# Altium footprint library Potentiometers THD.PcbLib: 21 footprints (part 1 of 2)
Each footprint in its own frame and in the unit in brackets; x right, y up, seen from the top. Pads: shape width x height; smd on the part's side, far side on the other; paste and mask are expansions set on the pad; w line width, h text height; cw(c..) or ccw(c..) is an arc to the next point about the centre after c.
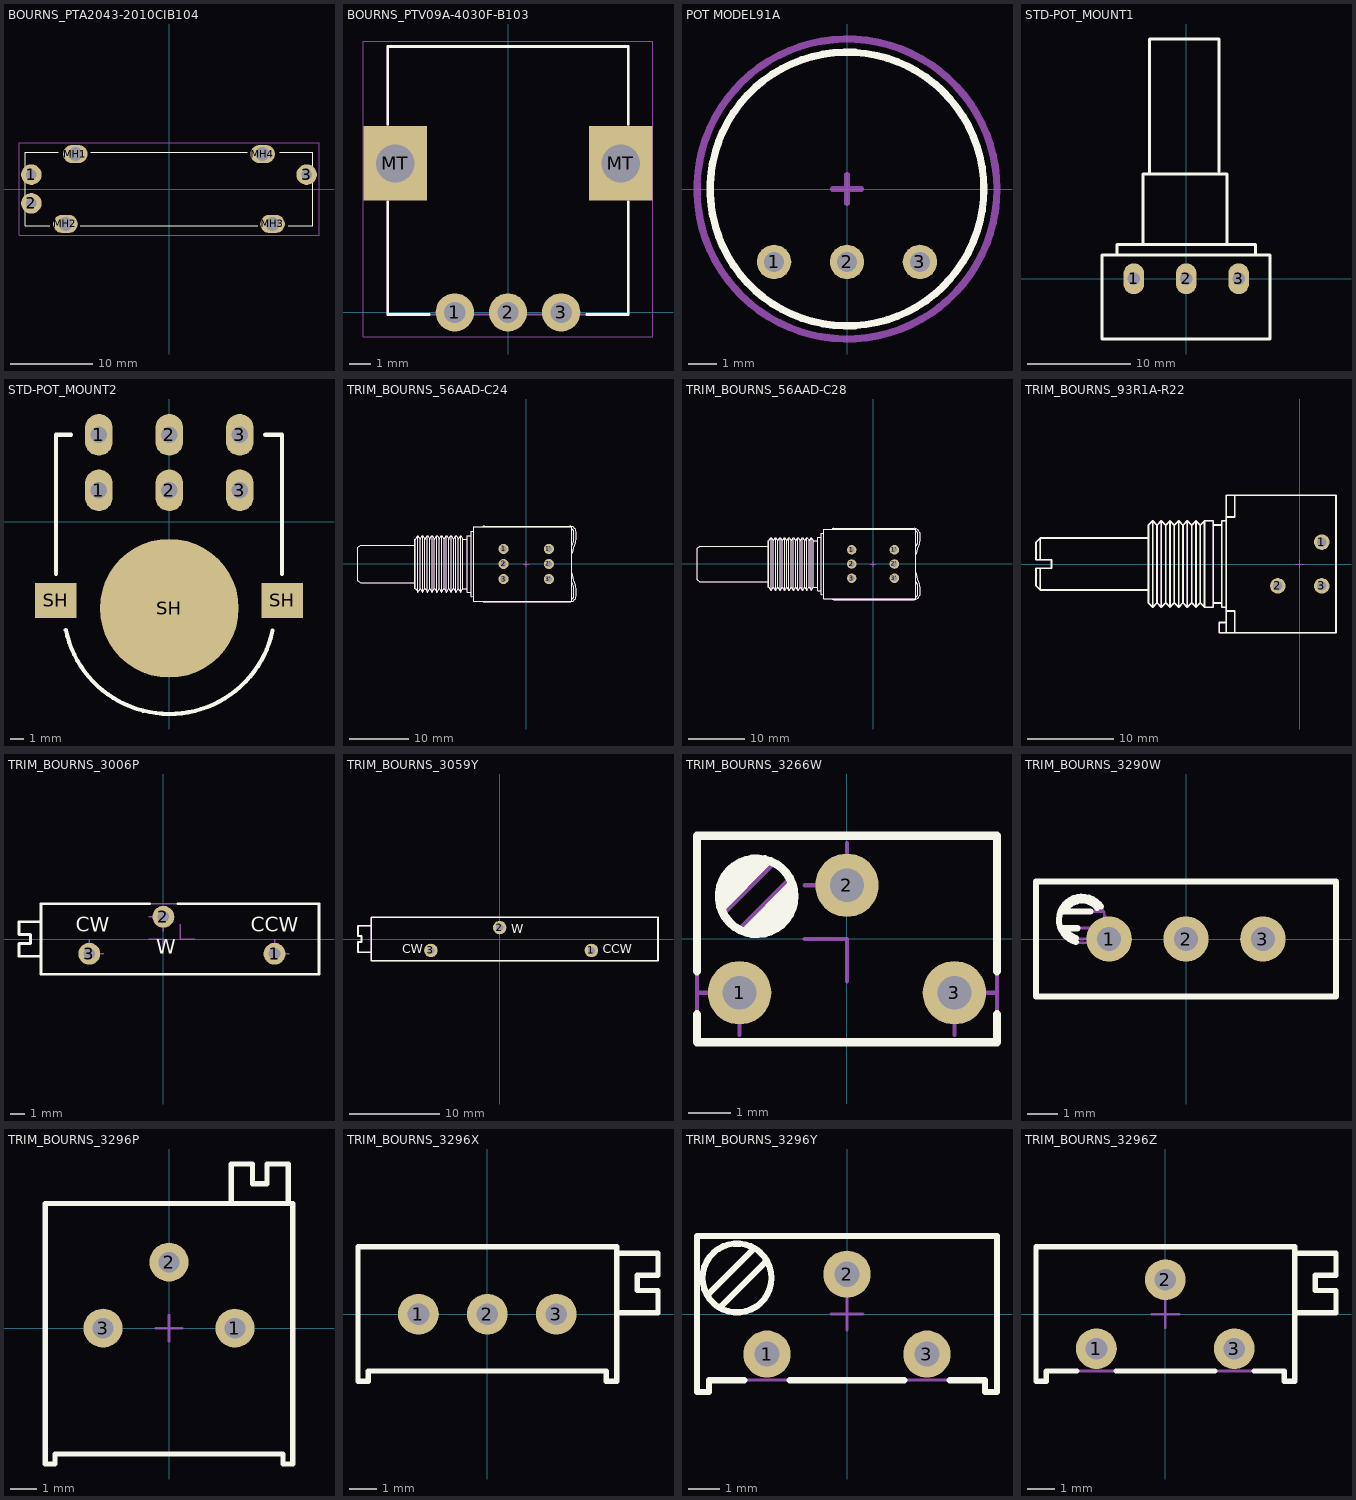
[diagram p0: the footprints below, top view; thin cyan lines are the x and y axes]

## BOURNS_PTA2043-2010CIB104 [mm] "SLIDE POT 100K OHM 0.1W TOP 20MM"
pads (7):
  round 2.5 hole 1.3 mask+0.05: 1(-16.75,1.75) 2(-16.75,-1.75) 3(16.75,1.75)
  oval 3x2.2 hole 1.7 mask+0.05: MH1(-11.4,4.25) MH2(-12.6,-4.25) MH3(12.6,-4.25) MH4(11.4,4.25)
Top Overlay:
  lines w0.127: -14.5,-4.5 -17.5,-4.5 -17.5,4.5 -13.5,4.5 ; -10.8,-4.5 10.8,-4.5 ; -9.5,4.5 9.5,4.5 ; 13.5,4.5 17.5,4.5 17.5,-4.5 14.5,-4.5
Mechanical 15:
  lines w0.05: -18.25,-5.6 -18.25,5.6 18.25,5.6 18.25,-5.6 -18.25,-5.6
3D body: height 6.5, standoff 0, extent -17.5,-4.5 17.5,4.5
3D body: height 11.5, standoff 0.1, extent 7,-1 13.35,1

## BOURNS_PTV09A-4030F-B103 [mm] "Rectangular - 0.433\" x 0.382\" Face (11.00mm x 9.70mm)"
pads (5):
  round 1.8 hole 1: 1(-2.5,0) 2(0,0) 3(2.5,0)
  rect 3x3.5 hole 1.8 square: MT(-5.3,7) MT(5.3,7)
Top Overlay:
  lines w0.127: -5.65,5.2 -5.65,-0.1 -3.7,-0.1 ; -5.65,8.85 -5.65,12.5 5.65,12.5 5.65,8.85 ; 3.7,-0.1 5.65,-0.1 5.65,5.2
Mechanical 1:
  lines w0.1: -5.65,-0.1 -5.65,12.5 5.65,12.5 5.65,-0.1 -5.65,-0.1
Mechanical 15:
  lines w0.05: -6.8,-1.15 -6.8,12.75 6.8,12.75 6.8,-1.15 -6.8,-1.15
3D body "User Library-PTV09A-4.STEP": height 31.54, standoff -3.73, extent -5.659,-0.104 5.642,12.496

## POT MODEL91A [mm]
height 5.08
pads (3):
  round 1.2 hole 0.7: 1(-2.54,-2.54) 2(0,-2.54) 3(2.54,-2.54)
Top Overlay:
  circle w0.254: c0,0 r4.763
Mechanical 15:
  circle w0.254: c0,0 r5.22
  lines w0.2: -0.5,0 0.5,0 ; 0,-0.5 0,0.5
3D body "91A-1 mod.STEP": height 4.89, standoff -1.79, extent -4.681,-4.877 4.681,4.699

## STD-POT_MOUNT1 [mm]
pads (3):
  oval 2x3 hole 1.2: 1(-5.08,0) 2(0,0) 3(5.08,0)
Top Overlay:
  lines w0.3: -6.985,2.286 -6.731,2.286 -6.731,3.302 6.731,3.302 6.731,2.413 ; -4.191,3.429 -4.191,10.16 3.937,10.16 3.937,3.429 ; -3.556,10.287 -3.556,23.241 3.175,23.241 3.175,10.414 ; -8.18,-5.842 -8.18,2.286 8.128,2.286 8.128,-5.842 -8.18,-5.842
3D body "Potentiometer.SLDPRT": height 20.86, standoff -3.99, extent -8.18,-5.8 8.16,23.24

## STD-POT_MOUNT2 [mm]
pads (9):
  oval 2x3 hole 1.2: 1(-5.059,2.25) 1(-5.059,6.25) 2(0.021,2.25) 2(0.021,6.25) 3(5.101,2.25) 3(5.101,6.25)
  rect 3x2.5 smd: SH(-8.149,-5.688) SH(8.149,-5.688)
  round 10 smd: SH(0.021,-6.25)
Top Overlay:
  lines w0.3: -8.149,-3.783 -8.149,6.25 -7.059,6.25 ; -7.439,-7.813 ccw(c0.021,-6.25) 7.47,-7.865 ; 6.941,6.25 8.149,6.25 8.149,-3.783
3D body "Pin Header Male 01x01 P2.54mm.stp": height 8.34, standoff -3.05, extent 3.829,0.98 6.369,3.52
3D body "Pin Header Male 01x01 P2.54mm.stp": height 8.34, standoff -3.05, extent -1.251,0.98 1.289,3.52
3D body "Pin Header Male 01x01 P2.54mm.stp": height 8.34, standoff -3.05, extent -6.331,0.98 -3.791,3.52
3D body "Potentiometer.SLDPRT": height 29.05, standoff 0.01, extent -8.149,-14.62 8.191,10.23

## TRIM_BOURNS_56AAD-C24 [mm] "Panel Control Trimming Potentiometer with Rotary (Clock Wise) SPDT Switch, Serie 56"
height 13.25
pads (6):
  round 1.7 hole 1: 1(-3.81,2.54) 1'(3.81,2.54) 2(-3.81,0) 2'(3.81,0) 3(-3.81,-2.54) 3'(3.81,-2.54)
Top Overlay:
  lines w0.2: -18.773,-4.125 -18.773,4.125 ; -18.653,-4.125 -18.603,-4.125 -18.253,-4.725 -18.203,-4.725 -17.853,-4.125 -17.803,-4.125 -17.453,-4.725 -17.403,-4.725 -17.053,-4.125 -17.003,-4.125 -16.653,-4.725 -16.603,-4.725 -16.253,-4.125 -16.203,-4.125 -15.853,-4.725 -15.803,-4.725 -15.453,-4.125 -15.403,-4.125 -15.053,-4.725 -15.003,-4.725 -14.653,-4.125 -14.603,-4.125 -14.253,-4.725 -14.203,-4.725 -13.853,-4.125 -13.803,-4.125 -13.453,-4.725 -13.403,-4.725 -13.053,-4.125 -13.003,-4.125 -12.653,-4.725 -12.603,-4.725 -12.253,-4.125 -12.203,-4.125 -11.853,-4.725 -11.803,-4.725 -11.453,-4.125 -11.403,-4.125 -11.053,-4.725 -11.003,-4.725 -10.653,-4.125 ; -18.653,4.125 -18.603,4.125 -18.253,4.725 -18.203,4.725 -17.853,4.125 -17.803,4.125 -17.453,4.725 -17.403,4.725 -17.053,4.125 -17.003,4.125 -16.653,4.725 -16.603,4.725 -16.253,4.125 -16.203,4.125 -15.853,4.725 -15.803,4.725 -15.453,4.125 -15.403,4.125 -15.053,4.725 -15.003,4.725 -14.653,4.125 -14.603,4.125 -14.253,4.725 -14.203,4.725 -13.853,4.125 -13.803,4.125 -13.453,4.725 -13.403,4.725 -13.053,4.125 -13.003,4.125 -12.653,4.725 -12.603,4.725 -12.253,4.125 -12.203,4.125 -11.853,4.725 -11.803,4.725 -11.453,4.125 -11.403,4.125 -11.053,4.725 -11.003,4.725 -10.653,4.125 ; -18.628,-4.125 -18.628,4.125 ; -18.228,-4.725 -18.228,4.725 ; -17.828,-4.125 -17.828,4.125 ; -17.428,-4.725 -17.428,4.725 ; -17.028,-4.125 -17.028,4.125 ; -16.628,-4.725 -16.628,4.725 ; -16.228,-4.125 -16.228,4.125 ; -15.828,-4.725 -15.828,4.725 ; -15.428,-4.125 -15.428,4.125 ; -15.028,-4.725 -15.028,4.725 ; -14.628,-4.125 -14.628,4.125 ; -14.228,-4.725 -14.228,4.725 ; -13.828,-4.125 -13.828,4.125 ; -13.428,-4.725 -13.428,4.725 ; -13.028,-4.125 -13.028,4.125 ; -12.628,-4.725 -12.628,4.725 ; -12.228,-4.125 -12.228,4.125 ; -11.828,-4.725 -11.828,4.725 ; -11.428,-4.125 -11.428,4.125 ; -11.028,-4.725 -11.028,4.725 ; -9.891,-4.178 -10.653,-4.178 -10.653,4.178 -9.891,4.178 ; -9.256,-4.763 -9.891,-4.763 -9.891,4.762 -9.256,4.762 ; -8.837,-5.447 -9.243,-5.512 -9.243,5.512 -8.837,5.512 ; -7.33,-6.248 ccw(c-7.052,-5.918) -7.052,-6.35 7.354,-6.35 ccw(c7.354,-5.294) 8.41,-5.294 8.41,-4.315 ccw(c6.53,-4.315) 8.246,-3.547 cw(c14.706,-0.656) 7.733,-1.87 7.673,-1.524 ; -7.33,6.248 cw(c-7.052,5.918) -7.052,6.35 7.354,6.35 cw(c7.354,5.294) 8.41,5.294 8.41,4.315 cw(c6.53,4.315) 8.246,3.547 ccw(c14.706,0.656) 7.733,1.87 7.673,1.524 ; 7.673,-5.889 ccw(c7.354,-5.294) 8.029,-5.294 8.029,-4.315 ccw(c6.53,-4.315) 7.898,-3.702 cw(c14.706,-0.656) 7.673,-3.14 ; 7.673,3.14 cw(c14.706,0.656) 7.898,3.702 ccw(c6.53,4.315) 8.029,4.315 8.029,5.294 ccw(c7.354,5.294) 7.673,5.889 ; -28.293,-2.821 -27.793,-3.175 -18.773,-3.175 -18.773,3.175 -27.793,3.175 -28.293,2.821 -28.293,-2.821 ; -8.837,-6.248 7.673,-6.248 7.673,6.248 -8.837,6.248 -8.837,-6.248
Mechanical 8:
  lines w0.1: -4.31,-2.54 -3.81,-2.54 ; -4.31,-0.001 -3.81,-0.001 ; -4.31,2.54 -3.81,2.54 ; -3.81,-3.04 -3.81,-2.54 ; -3.81,-2.04 -3.81,-2.54 ; -3.81,-0.501 -3.81,-0.001 ; -3.81,0.499 -3.81,-0.001 ; -3.81,2.04 -3.81,2.54 ; -3.81,3.04 -3.81,2.54 ; -3.31,-2.54 -3.81,-2.54 ; -3.31,-0.001 -3.81,-0.001 ; -3.31,2.54 -3.81,2.54 ; -0.5,0 0,0 ; 0,-0.5 0,0 ; 0,0.5 0,0 ; 0.5,0 0,0 ; 3.31,-2.54 3.81,-2.54 ; 3.31,-0.001 3.81,-0.001 ; 3.31,2.54 3.81,2.54 ; 3.81,-3.04 3.81,-2.54 ; 3.81,-2.04 3.81,-2.54 ; 3.81,-0.501 3.81,-0.001 ; 3.81,0.499 3.81,-0.001 ; 3.81,2.04 3.81,2.54 ; 3.81,3.04 3.81,2.54 ; 4.31,-2.54 3.81,-2.54 ; 4.31,-0.001 3.81,-0.001 ; 4.31,2.54 3.81,2.54
Mechanical 14:
  lines w0.1: -18.773,-4.125 -18.773,4.125 ; -18.653,-4.125 -18.603,-4.125 -18.253,-4.725 -18.203,-4.725 -17.853,-4.125 -17.803,-4.125 -17.453,-4.725 -17.403,-4.725 -17.053,-4.125 -17.003,-4.125 -16.653,-4.725 -16.603,-4.725 -16.253,-4.125 -16.203,-4.125 -15.853,-4.725 -15.803,-4.725 -15.453,-4.125 -15.403,-4.125 -15.053,-4.725 -15.003,-4.725 -14.653,-4.125 -14.603,-4.125 -14.253,-4.725 -14.203,-4.725 -13.853,-4.125 -13.803,-4.125 -13.453,-4.725 -13.403,-4.725 -13.053,-4.125 -13.003,-4.125 -12.653,-4.725 -12.603,-4.725 -12.253,-4.125 -12.203,-4.125 -11.853,-4.725 -11.803,-4.725 -11.453,-4.125 -11.403,-4.125 -11.053,-4.725 -11.003,-4.725 -10.653,-4.125 ; -18.653,4.125 -18.603,4.125 -18.253,4.725 -18.203,4.725 -17.853,4.125 -17.803,4.125 -17.453,4.725 -17.403,4.725 -17.053,4.125 -17.003,4.125 -16.653,4.725 -16.603,4.725 -16.253,4.125 -16.203,4.125 -15.853,4.725 -15.803,4.725 -15.453,4.125 -15.403,4.125 -15.053,4.725 -15.003,4.725 -14.653,4.125 -14.603,4.125 -14.253,4.725 -14.203,4.725 -13.853,4.125 -13.803,4.125 -13.453,4.725 -13.403,4.725 -13.053,4.125 -13.003,4.125 -12.653,4.725 -12.603,4.725 -12.253,4.125 -12.203,4.125 -11.853,4.725 -11.803,4.725 -11.453,4.125 -11.403,4.125 -11.053,4.725 -11.003,4.725 -10.653,4.125 ; -18.628,-4.125 -18.628,4.125 ; -18.228,-4.725 -18.228,4.725 ; -17.828,-4.125 -17.828,4.125 ; -17.428,-4.725 -17.428,4.725 ; -17.028,-4.125 -17.028,4.125 ; -16.628,-4.725 -16.628,4.725 ; -16.228,-4.125 -16.228,4.125 ; -15.828,-4.725 -15.828,4.725 ; -15.428,-4.125 -15.428,4.125 ; -15.028,-4.725 -15.028,4.725 ; -14.628,-4.125 -14.628,4.125 ; -14.228,-4.725 -14.228,4.725 ; -13.828,-4.125 -13.828,4.125 ; -13.428,-4.725 -13.428,4.725 ; -13.028,-4.125 -13.028,4.125 ; -12.628,-4.725 -12.628,4.725 ; -12.228,-4.125 -12.228,4.125 ; -11.828,-4.725 -11.828,4.725 ; -11.428,-4.125 -11.428,4.125 ; -11.028,-4.725 -11.028,4.725 ; -9.891,-4.178 -10.653,-4.178 -10.653,4.178 -9.891,4.178 ; -9.256,-4.763 -9.891,-4.763 -9.891,4.762 -9.256,4.762 ; -8.837,-5.447 -9.243,-5.512 -9.243,5.512 -8.837,5.512 ; -7.33,-6.248 ccw(c-7.052,-5.918) -7.052,-6.35 7.354,-6.35 ccw(c7.354,-5.294) 8.41,-5.294 8.41,-4.315 ccw(c6.53,-4.315) 8.246,-3.547 cw(c14.706,-0.656) 7.733,-1.87 7.673,-1.524 ; -7.33,6.248 cw(c-7.052,5.918) -7.052,6.35 7.354,6.35 cw(c7.354,5.294) 8.41,5.294 8.41,4.315 cw(c6.53,4.315) 8.246,3.547 ccw(c14.706,0.656) 7.733,1.87 7.673,1.524 ; 7.673,-5.889 ccw(c7.354,-5.294) 8.029,-5.294 8.029,-4.315 ccw(c6.53,-4.315) 7.898,-3.702 cw(c14.706,-0.656) 7.673,-3.14 ; 7.673,3.14 cw(c14.706,0.656) 7.898,3.702 ccw(c6.53,4.315) 8.029,4.315 8.029,5.294 ccw(c7.354,5.294) 7.673,5.889 ; -28.293,-2.821 -27.793,-3.175 -18.773,-3.175 -18.773,3.175 -27.793,3.175 -28.293,2.821 -28.293,-2.821 ; -8.837,-6.248 7.673,-6.248 7.673,6.248 -8.837,6.248 -8.837,-6.248
3D body "TRIM_BOURNS_56AAD-C24_Part2.stp": height 14.09, standoff -0.12, extent -12.582,-6.772 -9.241,6.772
3D body "TRIM_BOURNS_56AAD-C24_Part1.stp": height 13.23, standoff -6.9, extent -28.293,-6.35 8.41,6.35

## TRIM_BOURNS_56AAD-C28 [mm] "Panel Control Trimming Potentiometer with Rotary (Clock Wise) SPDT Switch, Serie 56"
height 13.25
pads (6):
  round 1.7 hole 1: 1(-3.81,2.54) 1'(3.81,2.54) 2(-3.81,0) 2'(3.81,0) 3(-3.81,-2.54) 3'(3.81,-2.54)
Top Overlay:
  lines w0.2: -18.773,-4.125 -18.773,4.125 ; -18.653,-4.125 -18.603,-4.125 -18.253,-4.725 -18.203,-4.725 -17.853,-4.125 -17.803,-4.125 -17.453,-4.725 -17.403,-4.725 -17.053,-4.125 -17.003,-4.125 -16.653,-4.725 -16.603,-4.725 -16.253,-4.125 -16.203,-4.125 -15.853,-4.725 -15.803,-4.725 -15.453,-4.125 -15.403,-4.125 -15.053,-4.725 -15.003,-4.725 -14.653,-4.125 -14.603,-4.125 -14.253,-4.725 -14.203,-4.725 -13.853,-4.125 -13.803,-4.125 -13.453,-4.725 -13.403,-4.725 -13.053,-4.125 -13.003,-4.125 -12.653,-4.725 -12.603,-4.725 -12.253,-4.125 -12.203,-4.125 -11.853,-4.725 -11.803,-4.725 -11.453,-4.125 -11.403,-4.125 -11.053,-4.725 -11.003,-4.725 -10.653,-4.125 ; -18.653,4.125 -18.603,4.125 -18.253,4.725 -18.203,4.725 -17.853,4.125 -17.803,4.125 -17.453,4.725 -17.403,4.725 -17.053,4.125 -17.003,4.125 -16.653,4.725 -16.603,4.725 -16.253,4.125 -16.203,4.125 -15.853,4.725 -15.803,4.725 -15.453,4.125 -15.403,4.125 -15.053,4.725 -15.003,4.725 -14.653,4.125 -14.603,4.125 -14.253,4.725 -14.203,4.725 -13.853,4.125 -13.803,4.125 -13.453,4.725 -13.403,4.725 -13.053,4.125 -13.003,4.125 -12.653,4.725 -12.603,4.725 -12.253,4.125 -12.203,4.125 -11.853,4.725 -11.803,4.725 -11.453,4.125 -11.403,4.125 -11.053,4.725 -11.003,4.725 -10.653,4.125 ; -18.628,-4.125 -18.628,4.125 ; -18.228,-4.725 -18.228,4.725 ; -17.828,-4.125 -17.828,4.125 ; -17.428,-4.725 -17.428,4.725 ; -17.028,-4.125 -17.028,4.125 ; -16.628,-4.725 -16.628,4.725 ; -16.228,-4.125 -16.228,4.125 ; -15.828,-4.725 -15.828,4.725 ; -15.428,-4.125 -15.428,4.125 ; -15.028,-4.725 -15.028,4.725 ; -14.628,-4.125 -14.628,4.125 ; -14.228,-4.725 -14.228,4.725 ; -13.828,-4.125 -13.828,4.125 ; -13.428,-4.725 -13.428,4.725 ; -13.028,-4.125 -13.028,4.125 ; -12.628,-4.725 -12.628,4.725 ; -12.228,-4.125 -12.228,4.125 ; -11.828,-4.725 -11.828,4.725 ; -11.428,-4.125 -11.428,4.125 ; -11.028,-4.725 -11.028,4.725 ; -9.891,-4.178 -10.653,-4.178 -10.653,4.178 -9.891,4.178 ; -9.256,-4.763 -9.891,-4.763 -9.891,4.762 -9.256,4.762 ; -8.837,-5.447 -9.243,-5.512 -9.243,5.512 -8.837,5.512 ; -7.33,-6.248 ccw(c-7.052,-5.918) -7.052,-6.35 7.354,-6.35 ccw(c7.354,-5.294) 8.41,-5.294 8.41,-4.315 ccw(c6.53,-4.315) 8.246,-3.547 cw(c14.706,-0.656) 7.733,-1.87 7.673,-1.524 ; -7.33,6.248 cw(c-7.052,5.918) -7.052,6.35 7.354,6.35 cw(c7.354,5.294) 8.41,5.294 8.41,4.315 cw(c6.53,4.315) 8.246,3.547 ccw(c14.706,0.656) 7.733,1.87 7.673,1.524 ; 7.673,-5.889 ccw(c7.354,-5.294) 8.029,-5.294 8.029,-4.315 ccw(c6.53,-4.315) 7.898,-3.702 cw(c14.706,-0.656) 7.673,-3.14 ; 7.673,3.14 cw(c14.706,0.656) 7.898,3.702 ccw(c6.53,4.315) 8.029,4.315 8.029,5.294 ccw(c7.354,5.294) 7.673,5.889 ; -31.473,-2.821 -31.473,2.821 -30.973,3.175 -18.773,3.175 -18.773,-3.175 -30.973,-3.175 -31.473,-2.821 ; -8.837,-6.248 -8.837,6.248 7.673,6.248 7.673,-6.248 -8.837,-6.248
Mechanical 8:
  lines w0.1: -4.31,-2.54 -3.81,-2.54 ; -4.31,-0.001 -3.81,-0.001 ; -4.31,2.54 -3.81,2.54 ; -3.81,-3.04 -3.81,-2.54 ; -3.81,-2.04 -3.81,-2.54 ; -3.81,-0.501 -3.81,-0.001 ; -3.81,0.499 -3.81,-0.001 ; -3.81,2.04 -3.81,2.54 ; -3.81,3.04 -3.81,2.54 ; -3.31,-2.54 -3.81,-2.54 ; -3.31,-0.001 -3.81,-0.001 ; -3.31,2.54 -3.81,2.54 ; -0.5,0 0,0 ; 0,-0.5 0,0 ; 0,0.5 0,0 ; 0.5,0 0,0 ; 3.31,-2.54 3.81,-2.54 ; 3.31,-0.001 3.81,-0.001 ; 3.31,2.54 3.81,2.54 ; 3.81,-3.04 3.81,-2.54 ; 3.81,-2.04 3.81,-2.54 ; 3.81,-0.501 3.81,-0.001 ; 3.81,0.499 3.81,-0.001 ; 3.81,2.04 3.81,2.54 ; 3.81,3.04 3.81,2.54 ; 4.31,-2.54 3.81,-2.54 ; 4.31,-0.001 3.81,-0.001 ; 4.31,2.54 3.81,2.54
Mechanical 14:
  lines w0.1: -18.773,-4.125 -18.773,4.125 ; -18.653,-4.125 -18.603,-4.125 -18.253,-4.725 -18.203,-4.725 -17.853,-4.125 -17.803,-4.125 -17.453,-4.725 -17.403,-4.725 -17.053,-4.125 -17.003,-4.125 -16.653,-4.725 -16.603,-4.725 -16.253,-4.125 -16.203,-4.125 -15.853,-4.725 -15.803,-4.725 -15.453,-4.125 -15.403,-4.125 -15.053,-4.725 -15.003,-4.725 -14.653,-4.125 -14.603,-4.125 -14.253,-4.725 -14.203,-4.725 -13.853,-4.125 -13.803,-4.125 -13.453,-4.725 -13.403,-4.725 -13.053,-4.125 -13.003,-4.125 -12.653,-4.725 -12.603,-4.725 -12.253,-4.125 -12.203,-4.125 -11.853,-4.725 -11.803,-4.725 -11.453,-4.125 -11.403,-4.125 -11.053,-4.725 -11.003,-4.725 -10.653,-4.125 ; -18.653,4.125 -18.603,4.125 -18.253,4.725 -18.203,4.725 -17.853,4.125 -17.803,4.125 -17.453,4.725 -17.403,4.725 -17.053,4.125 -17.003,4.125 -16.653,4.725 -16.603,4.725 -16.253,4.125 -16.203,4.125 -15.853,4.725 -15.803,4.725 -15.453,4.125 -15.403,4.125 -15.053,4.725 -15.003,4.725 -14.653,4.125 -14.603,4.125 -14.253,4.725 -14.203,4.725 -13.853,4.125 -13.803,4.125 -13.453,4.725 -13.403,4.725 -13.053,4.125 -13.003,4.125 -12.653,4.725 -12.603,4.725 -12.253,4.125 -12.203,4.125 -11.853,4.725 -11.803,4.725 -11.453,4.125 -11.403,4.125 -11.053,4.725 -11.003,4.725 -10.653,4.125 ; -18.628,-4.125 -18.628,4.125 ; -18.228,-4.725 -18.228,4.725 ; -17.828,-4.125 -17.828,4.125 ; -17.428,-4.725 -17.428,4.725 ; -17.028,-4.125 -17.028,4.125 ; -16.628,-4.725 -16.628,4.725 ; -16.228,-4.125 -16.228,4.125 ; -15.828,-4.725 -15.828,4.725 ; -15.428,-4.125 -15.428,4.125 ; -15.028,-4.725 -15.028,4.725 ; -14.628,-4.125 -14.628,4.125 ; -14.228,-4.725 -14.228,4.725 ; -13.828,-4.125 -13.828,4.125 ; -13.428,-4.725 -13.428,4.725 ; -13.028,-4.125 -13.028,4.125 ; -12.628,-4.725 -12.628,4.725 ; -12.228,-4.125 -12.228,4.125 ; -11.828,-4.725 -11.828,4.725 ; -11.428,-4.125 -11.428,4.125 ; -11.028,-4.725 -11.028,4.725 ; -9.891,-4.178 -10.653,-4.178 -10.653,4.178 -9.891,4.178 ; -9.256,-4.763 -9.891,-4.763 -9.891,4.762 -9.256,4.762 ; -8.837,-5.447 -9.243,-5.512 -9.243,5.512 -8.837,5.512 ; -7.33,-6.248 ccw(c-7.052,-5.918) -7.052,-6.35 7.354,-6.35 ccw(c7.354,-5.294) 8.41,-5.294 8.41,-4.315 ccw(c6.53,-4.315) 8.246,-3.547 cw(c14.706,-0.656) 7.733,-1.87 7.673,-1.524 ; -7.33,6.248 cw(c-7.052,5.918) -7.052,6.35 7.354,6.35 cw(c7.354,5.294) 8.41,5.294 8.41,4.315 cw(c6.53,4.315) 8.246,3.547 ccw(c14.706,0.656) 7.733,1.87 7.673,1.524 ; 7.673,-5.889 ccw(c7.354,-5.294) 8.029,-5.294 8.029,-4.315 ccw(c6.53,-4.315) 7.898,-3.702 cw(c14.706,-0.656) 7.673,-3.14 ; 7.673,3.14 cw(c14.706,0.656) 7.898,3.702 ccw(c6.53,4.315) 8.029,4.315 8.029,5.294 ccw(c7.354,5.294) 7.673,5.889 ; -31.473,-2.821 -31.473,2.821 -30.973,3.175 -18.773,3.175 -18.773,-3.175 -30.973,-3.175 -31.473,-2.821 ; -8.837,-6.248 -8.837,6.248 7.673,6.248 7.673,-6.248 -8.837,-6.248
3D body "TRIM_BOURNS_56AAD-C28_Part1.stp": height 13.23, standoff -6.9, extent -31.473,-6.35 8.41,6.35
3D body "TRIM_BOURNS_56AAD-C28_Part2.stp": height 14.09, standoff -0.12, extent -12.582,-6.772 -9.241,6.772

## TRIM_BOURNS_93R1A-R22 [mm] "1 Turn Panel Control Trimming Potentiometer 93 Series"
height 17.45
pads (3):
  round 1.8 hole 1.1: 1(2.54,2.54) 2(-2.54,-2.54) 3(2.54,-2.54)
Top Overlay:
  lines w0.2: -30.01,-0.5 -30.01,-3 ; -30.01,0.5 -30.01,3 ; -17.51,-3 -30.01,-3 ; -17.51,3 -30.01,3 ; -10.01,-4.5 -9.01,-4.5 ; -10.01,4.5 -9.01,4.5 ; -8.51,-7.94 -8.51,7.94 4.19,7.94 4.19,-7.94 -9.3,-7.94 -9.3,-6.76 -8.51,-6.76 ; -8.51,-5.44 -7.51,-5.44 -7.51,-7.94 ; -8.51,-5 -9.01,-5 -9.01,5 -8.51,5 ; -8.51,5.44 -7.51,5.44 -7.51,7.94 ; -30.01,-3 -30.51,-2.5 -30.51,-0.5 -28.71,-0.5 -28.71,0.5 -30.51,0.5 -30.51,2.5 -30.01,3 ; -17.01,-5 -17.01,5 ; -17.01,-5 -16.51,-4.5 ; -17.01,-5 -17.51,-4.5 -17.51,4.5 -17.01,5 ; -17.01,5 -16.51,4.5 ; -16.51,-4.5 -16.51,4.5 ; -16.51,-4.5 -16.01,-5 ; -16.51,4.5 -16.01,5 ; -16.01,-5 -16.01,5 ; -16.01,-5 -15.51,-4.5 ; -16.01,5 -15.51,4.5 ; -15.51,-4.5 -15.51,4.5 ; -15.51,-4.5 -15.01,-5 ; -15.51,4.5 -15.01,5 ; -15.01,-5 -15.01,5 ; -15.01,-5 -14.51,-4.5 ; -15.01,5 -14.51,4.5 ; -14.51,-4.5 -14.51,4.5 ; -14.51,-4.5 -14.01,-5 ; -14.51,4.5 -14.01,5 ; -14.01,-5 -14.01,5 ; -14.01,-5 -13.51,-4.5 ; -14.01,5 -13.51,4.5 ; -13.51,-4.5 -13.51,4.5 ; -13.51,-4.5 -13.01,-5 ; -13.51,4.5 -13.01,5 ; -13.01,-5 -13.01,5 ; -13.01,-5 -12.51,-4.5 ; -13.01,5 -12.51,4.5 ; -12.51,-4.5 -12.51,4.5 ; -12.51,-4.5 -12.01,-5 ; -12.51,4.5 -12.01,5 ; -12.01,-5 -12.01,5 ; -12.01,-5 -11.51,-4.5 ; -12.01,5 -11.51,4.5 ; -11.51,-4.5 -11.51,4.5 ; -11.51,-4.5 -11.01,-5 ; -11.51,4.5 -11.01,5 ; -11.01,-5 -11.01,5 ; -11.01,-5 -10.01,-5 -10.01,5 -11.01,5
Mechanical 8:
  lines w0.05: -3.04,-2.54 -2.54,-2.54 ; -2.54,-3.04 -2.54,-2.54 ; -2.54,-2.04 -2.54,-2.54 ; -2.04,-2.54 -2.54,-2.54 ; -0.5,0 0,0 ; 0,-0.5 0,0 ; 0,0.5 0,0 ; 0.5,0 0,0 ; 2.04,-2.54 2.54,-2.54 ; 2.04,2.54 2.54,2.54 ; 2.54,-3.04 2.54,-2.54 ; 2.54,-2.04 2.54,-2.54 ; 2.54,2.04 2.54,2.54 ; 2.54,3.04 2.54,2.54 ; 3.04,-2.54 2.54,-2.54 ; 3.04,2.54 2.54,2.54
Mechanical 14:
  lines w0.1: -30.01,-0.5 -30.01,-3 ; -30.01,0.5 -30.01,3 ; -17.51,-3 -30.01,-3 ; -17.51,3 -30.01,3 ; -10.01,-4.5 -9.01,-4.5 ; -10.01,4.5 -9.01,4.5 ; -8.51,-7.94 -8.51,7.94 4.19,7.94 4.19,-7.94 -9.3,-7.94 -9.3,-6.76 -8.51,-6.76 ; -8.51,-5.44 -7.51,-5.44 -7.51,-7.94 ; -8.51,-5 -9.01,-5 -9.01,5 -8.51,5 ; -8.51,5.44 -7.51,5.44 -7.51,7.94 ; -30.01,-3 -30.51,-2.5 -30.51,-0.5 -28.71,-0.5 -28.71,0.5 -30.51,0.5 -30.51,2.5 -30.01,3 ; -17.01,-5 -17.01,5 ; -17.01,-5 -16.51,-4.5 ; -17.01,-5 -17.51,-4.5 -17.51,4.5 -17.01,5 ; -17.01,5 -16.51,4.5 ; -16.51,-4.5 -16.51,4.5 ; -16.51,-4.5 -16.01,-5 ; -16.51,4.5 -16.01,5 ; -16.01,-5 -16.01,5 ; -16.01,-5 -15.51,-4.5 ; -16.01,5 -15.51,4.5 ; -15.51,-4.5 -15.51,4.5 ; -15.51,-4.5 -15.01,-5 ; -15.51,4.5 -15.01,5 ; -15.01,-5 -15.01,5 ; -15.01,-5 -14.51,-4.5 ; -15.01,5 -14.51,4.5 ; -14.51,-4.5 -14.51,4.5 ; -14.51,-4.5 -14.01,-5 ; -14.51,4.5 -14.01,5 ; -14.01,-5 -14.01,5 ; -14.01,-5 -13.51,-4.5 ; -14.01,5 -13.51,4.5 ; -13.51,-4.5 -13.51,4.5 ; -13.51,-4.5 -13.01,-5 ; -13.51,4.5 -13.01,5 ; -13.01,-5 -13.01,5 ; -13.01,-5 -12.51,-4.5 ; -13.01,5 -12.51,4.5 ; -12.51,-4.5 -12.51,4.5 ; -12.51,-4.5 -12.01,-5 ; -12.51,4.5 -12.01,5 ; -12.01,-5 -12.01,5 ; -12.01,-5 -11.51,-4.5 ; -12.01,5 -11.51,4.5 ; -11.51,-4.5 -11.51,4.5 ; -11.51,-4.5 -11.01,-5 ; -11.51,4.5 -11.01,5 ; -11.01,-5 -11.01,5 ; -11.01,-5 -10.01,-5 -10.01,5 -11.01,5
3D body "TRIM_BOURNS_93R1A-R22_1.stp": height 16.3, standoff 2.76, extent -14.137,-7.103 -10.796,7.103
3D body "TRIM_BOURNS_93R1A-R22.stp": height 17.45, standoff -12.7, extent -30.51,-7.94 4.19,7.94

## TRIM_BOURNS_3006P [mm] "Trimming Potentiometer BOURNS 3006P Series"
height 6.35
pads (3):
  round 1.5 hole 0.8: 1(7.62,-1.015) 2(0,1.525) 3(-5.08,-1.015)
Top Overlay:
  lines w0.2: -8.38,-1.18 -9.9,-1.18 -9.9,-0.32 -9.11,-0.32 -9.11,0.32 -9.9,0.32 -9.9,1.18 -8.38,1.18 ; -0.95,2.415 -8.38,2.415 -8.38,-2.415 10.67,-2.415 10.67,2.415 1,2.415
  text "CW" at -6,0.5 h1
  text "W" at -0.5,-1 h1
  text "CCW" at 6,0.5 h1
Mechanical 8:
  circle w0.1: c7.62,-1.015 r0.27
  circle w0.1: c-5.08,-1.015 r0.27
  circle w0.1: c0,1.525 r0.27
  lines w0.1: -5.08,-0.015 -5.08,-1.015 -4.08,-1.015 ; -1,0 0,0 0,-1 ; -1,1.525 0,1.525 0,0.525 ; 1.145,1 1.145,0 2.145,0 ; 7.62,-0.015 7.62,-1.015 8.62,-1.015
Mechanical 14:
  lines w0.1: -8.38,-1.18 -9.9,-1.18 -9.9,-0.32 -9.11,-0.32 -9.11,0.32 -9.9,0.32 -9.9,1.18 -8.38,1.18 ; -8.38,-2.415 10.67,-2.415 10.67,2.415 -8.38,2.415 -8.38,-2.415
  text "CW" at -6,0.5 h1
  text "W" at -0.5,-1 h1
  text "CCW" at 6,0.5 h1
3D body "TRIM_BOURNS_3006P.stp": height 6.35, standoff -3.1, extent -9.9,-2.415 10.67,2.415

## TRIM_BOURNS_3059Y [mm] "Trimming Potentiometer BOURNS 3059 Series"
height 8.38
pads (3):
  round 1.5 hole 0.8: 1(10.16,-1.27) 2(0,1.27) 3(-7.62,-1.27)
Top Overlay:
  lines w0.2: -14.22,-1.46 -15.69,-1.46 ; -14.22,1.46 -15.69,1.46 -15.69,0.32 -15.295,0.32 -15.295,-0.32 -15.69,-0.32 ; -15.69,-1.46 -15.69,-0.32 ; -15.69,-1.46 -15.69,-0.32 ; -14.22,-2.415 17.53,-2.415 17.53,2.415 -14.22,2.415 -14.22,-2.415
  text "CW" at -10.795,-1.587 h1
  text "W" at 1.27,0.635 h1
  text "CCW" at 11.43,-1.587 h1
Mechanical 14:
  lines w0.1: -14.22,-1.46 -15.69,-1.46 -15.69,-0.32 -15.295,-0.32 -15.295,0.32 -15.69,0.32 -15.69,1.46 -14.22,1.46 ; -14.22,-2.415 17.53,-2.415 17.53,2.415 -14.22,2.415 -14.22,-2.415
3D body "TRIM_BOURNS_3059Y.stp": height 8.38, standoff -3.8, extent -16.25,-2.415 17.53,2.415

## TRIM_BOURNS_3266W [mm] "Trimming Potentiometer BOURNS 3266W Series"
height 7.75
pads (3):
  round 1.5 hole 0.8: 1(-2.54,-1.27) 2(0,1.27) 3(2.54,-1.27)
Top Overlay:
  circle w0.2: c-2.135,1.01 r0.89
  lines w0.2: -3.545,-1.775 -3.545,-2.44 3.545,-2.44 3.545,-1.775 ; -3.545,-0.765 -3.545,2.44 3.545,2.44 3.545,-0.765 ; -3.012,1.088 -2.228,1.878 ; -3,0.9 -2.028,1.878 ; -2.962,0.737 -1.865,1.84 ; -2.953,1.353 -2.503,1.803 ; -2.405,0.18 -1.308,1.283 ; -2.242,0.142 -1.27,1.12 ; -2.042,0.142 -1.258,0.933 ; -1.767,0.217 -1.317,0.667
Mechanical 8:
  circle w0.1: c2.54,-1.27 r0.245
  circle w0.1: c-2.54,-1.27 r0.245
  circle w0.1: c0,1.27 r0.245
  lines w0.1: -3.54,-1.27 -2.54,-1.27 -2.54,-2.27 ; -1,0 0,0 0,-1 ; -1,1.27 0,1.27 0,2.27 ; 2.54,-2.27 2.54,-1.27 3.54,-1.27
Mechanical 14:
  circle w0.1: c-2.135,1.01 r0.89
  lines w0.1: -2.918,0.587 -1.712,1.793 ; -2.558,0.227 -1.352,1.433 ; -3.545,-2.44 3.545,-2.44 3.545,2.44 -3.545,2.44 -3.545,-2.44
3D body "TRIM_BOURNS_3266W.stp": height 8.77, standoff -3.1, extent -3.545,-2.44 3.545,2.44

## TRIM_BOURNS_3290W [mm] "Trimming Potentiometer BOURNS 3290W Series"
height 9.91
pads (3):
  round 1.5 hole 0.8: 1(-2.54,0) 2(0,0) 3(2.54,0)
Top Overlay:
  lines w0.2: -4.144,0.356 -3.581,0.356 ; -4.144,0.914 -3.151,0.914 ; -4.005,0.356 ccw(c-3.435,0.635) -3.639,0.034 ; -4.005,0.914 cw(c-3.435,0.635) -2.935,1.027 ; -3.635,-0.1 cw(c-3.435,0.635) -2.807,1.067 ; -4.955,-1.905 4.955,-1.905 4.955,1.905 -4.955,1.905 -4.955,-1.905
Mechanical 8:
  lines w0.05: -3.04,0 -2.54,0 ; -2.54,-0.5 -2.54,0 ; -2.54,0.5 -2.54,0 ; -2.04,0 -2.54,0 ; -0.5,0 0,0 ; 0,-0.5 0,0 ; 0,0.5 0,0 ; 0.5,0 0,0 ; 2.04,0 2.54,0 ; 2.54,-0.5 2.54,0 ; 2.54,0.5 2.54,0 ; 3.04,0 2.54,0
Mechanical 14:
  circle w0.1: c-3.435,0.635 r0.762
  lines w0.1: -4.144,0.356 -2.726,0.356 ; -4.144,0.914 -2.726,0.914 ; -4.005,0.356 ccw(c-3.435,0.635) -2.865,0.356 ; -4.005,0.914 cw(c-3.435,0.635) -2.865,0.914 ; -4.955,-1.905 4.955,-1.905 4.955,1.905 -4.955,1.905 -4.955,-1.905
3D body "TRIM_BOURNS_3290W.stp": height 10.93, standoff -8.38, extent -4.955,-1.905 4.955,1.905

## TRIM_BOURNS_3296P [mm] "Trimming Potentiometer BOURNS 3296P Series"
height 4.96
pads (3):
  round 1.5 hole 0.8: 1(2.54,0) 2(0,2.54) 3(-2.54,0)
Top Overlay:
  lines w0.2: 2.4,4.8 2.4,6.32 3.215,6.32 3.215,5.56 3.775,5.56 3.775,6.32 4.59,6.32 4.59,4.8 ; -4.765,-5.23 -4.385,-5.23 -4.385,-4.85 4.385,-4.85 4.385,-5.23 4.765,-5.23 4.765,4.8 -4.765,4.8 -4.765,-5.23
Mechanical 8:
  lines w0.05: -3.04,0 -2.54,0 ; -2.54,-0.5 -2.54,0 ; -2.54,0.5 -2.54,0 ; -2.04,0 -2.54,0 ; -0.5,2.54 0,2.54 ; 0,2.04 0,2.54 ; 0,3.04 0,2.54 ; 0.5,2.54 0,2.54 ; 2.04,0 2.54,0 ; 2.54,-0.5 2.54,0 ; 2.54,0.5 2.54,0 ; 3.04,0 2.54,0
  lines w0.1: -0.5,0 0,0 ; 0,-0.5 0,0 ; 0,0.5 0,0 ; 0.5,0 0,0
Mechanical 14:
  lines w0.1: 2.4,4.8 2.4,6.32 3.215,6.32 3.215,5.56 3.775,5.56 3.775,6.32 4.59,6.32 4.59,4.8 ; -4.765,-5.23 -4.765,4.8 4.765,4.8 4.765,-5.23 4.385,-5.23 4.385,-4.85 -4.385,-4.85 -4.385,-5.23 -4.765,-5.23
3D body "TRIM_BOURNS_3296P.stp": height 4.96, standoff -3.42, extent -4.765,-5.23 4.765,6.32

## TRIM_BOURNS_3296X [mm] "Trimming Potentiometer BOURNS 3296X Series"
height 10.03
pads (3):
  round 1.5 hole 0.8: 1(-2.54,0) 2(0,0) 3(2.54,0)
Top Overlay:
  lines w0.2: 4.765,0.055 6.285,0.055 6.285,0.87 5.525,0.87 5.525,1.15 5.525,1.43 6.285,1.43 6.285,2.245 4.765,2.245 ; -4.765,-2.475 -4.385,-2.475 -4.385,-2.095 4.385,-2.095 4.385,-2.475 4.765,-2.475 4.765,2.485 -4.765,2.485 -4.765,-2.475
Mechanical 8:
  lines w0.1: -3.04,0 -2.54,0 ; -2.54,-0.5 -2.54,0 ; -2.54,0.5 -2.54,0 ; -2.04,0 -2.54,0 ; -0.5,0 0,0 ; 0,-0.5 0,0 ; 0,0.5 0,0 ; 0.5,0 0,0 ; 2.04,0 2.54,0 ; 2.54,-0.5 2.54,0 ; 2.54,0.5 2.54,0 ; 3.04,0 2.54,0
Mechanical 14:
  lines w0.1: 4.765,0.055 6.285,0.055 6.285,0.87 5.525,0.87 5.525,1.15 5.525,1.43 6.285,1.43 6.285,2.245 4.765,2.245 ; -4.765,-2.475 -4.385,-2.475 -4.385,-2.095 4.385,-2.095 4.385,-2.475 4.765,-2.475 4.765,2.485 -4.765,2.485 -4.765,-2.475
3D body "TRIM_BOURNS_3296X.stp": height 10.03, standoff -3.42, extent -4.765,-2.475 6.285,2.485

## TRIM_BOURNS_3296Y [mm] "Trimming Potentiometer BOURNS 3296Y Series"
height 11.55
pads (3):
  round 1.5 hole 0.8: 1(-2.54,-1.27) 2(0,1.27) 3(2.54,-1.27)
Top Overlay:
  circle w0.2: c-3.495,1.15 r1.095
  lines w0.2: -4.442,0.599 -2.944,2.097 ; -4.046,0.203 -2.548,1.701 ; -3.265,-2.095 -4.385,-2.095 -4.385,-2.475 -4.765,-2.475 -4.765,2.485 4.765,2.485 4.765,-2.475 4.385,-2.475 4.385,-2.095 3.265,-2.095 ; -1.816,-2.095 1.816,-2.095
Mechanical 8:
  lines w0.1: -3.04,-1.27 -2.54,-1.27 ; -2.54,-1.77 -2.54,-1.27 ; -2.54,-0.77 -2.54,-1.27 ; -2.04,-1.27 -2.54,-1.27 ; -0.5,0 0,0 ; -0.5,1.27 0,1.27 ; 0,-0.5 0,0 ; 0,0.5 0,0 ; 0,0.77 0,1.27 ; 0,1.77 0,1.27 ; 0.5,0 0,0 ; 0.5,1.27 0,1.27 ; 2.04,-1.27 2.54,-1.27 ; 2.54,-1.77 2.54,-1.27 ; 2.54,-0.77 2.54,-1.27 ; 3.04,-1.27 2.54,-1.27
Mechanical 14:
  circle w0.1: c-3.495,1.15 r1.095
  lines w0.1: -4.442,0.599 -2.944,2.097 ; -4.046,0.203 -2.548,1.701 ; -4.765,-2.475 -4.385,-2.475 -4.385,-2.095 4.385,-2.095 4.385,-2.475 4.765,-2.475 4.765,2.485 -4.765,2.485 -4.765,-2.475
3D body "TRIM_BOURNS_3296Y.stp": height 11.49, standoff -3.42, extent -4.765,-2.475 4.765,2.485

## TRIM_BOURNS_3296Z [mm] "Trimming Potentiometer BOURNS 3296Z Series"
height 10.03
pads (3):
  round 1.5 hole 0.8: 1(-2.54,-1.27) 2(0,1.27) 3(2.54,-1.27)
Top Overlay:
  lines w0.2: -3.265,-2.095 -4.385,-2.095 -4.385,-2.475 -4.765,-2.475 -4.765,2.485 4.765,2.485 4.765,-2.475 4.385,-2.475 4.385,-2.095 3.265,-2.095 ; -1.816,-2.095 1.816,-2.095 ; 4.765,0.055 6.285,0.055 6.285,0.87 5.525,0.87 5.525,1.15 5.525,1.43 6.285,1.43 6.285,2.245 4.765,2.245
Mechanical 8:
  lines w0.1: -3.04,-1.27 -2.54,-1.27 ; -2.54,-1.77 -2.54,-1.27 ; -2.54,-0.77 -2.54,-1.27 ; -2.04,-1.27 -2.54,-1.27 ; -0.5,0 0,0 ; -0.5,1.27 0,1.27 ; 0,-0.5 0,0 ; 0,0.5 0,0 ; 0,0.77 0,1.27 ; 0,1.77 0,1.27 ; 0.5,0 0,0 ; 0.5,1.27 0,1.27 ; 2.04,-1.27 2.54,-1.27 ; 2.54,-1.77 2.54,-1.27 ; 2.54,-0.77 2.54,-1.27 ; 3.04,-1.27 2.54,-1.27
Mechanical 14:
  lines w0.1: 4.765,0.055 6.285,0.055 6.285,0.87 5.525,0.87 5.525,1.15 5.525,1.43 6.285,1.43 6.285,2.245 4.765,2.245 ; -4.765,-2.475 -4.765,2.485 4.765,2.485 4.765,-2.475 4.385,-2.475 4.385,-2.095 -4.385,-2.095 -4.385,-2.475 -4.765,-2.475
3D body "TRIM_BOURNS_3296Z.stp": height 10.03, standoff -3.42, extent -4.765,-2.475 6.285,2.485